# EAGLE library part PIC24FJ64GB002 (library carrilib)
Microcontroller, 16 bit /w USB Manufacturer: Microchip Part Number: PIC24FJ64GB002
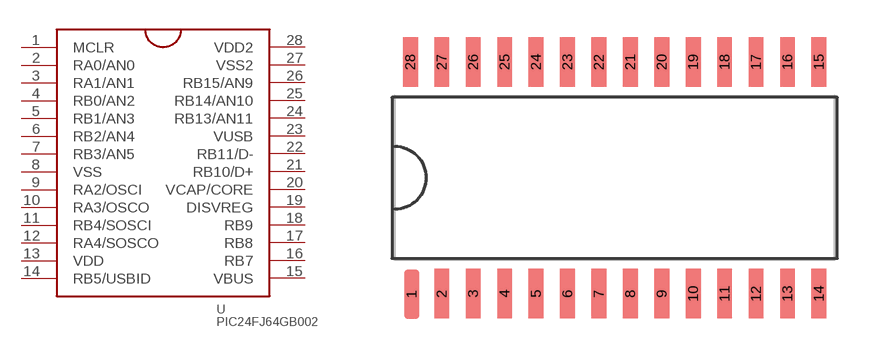
[diagram p18: symbol with the pads of SO28W; footprint SO28W]

Designator prefix U

## PIC24FJ64GB002  [SO28W]
1  MCLR
2  RA0/AN0
3  RA1/AN1
4  RB0/AN2
5  RB1/AN3
6  RB2/AN4
7  RB3/AN5
8  VSS
9  RA2/OSCI
10  RA3/OSCO
11  RB4/SOSCI
12  RA4/SOSCO
13  VDD
14  RB5/USBID
15  VBUS
16  RB7
17  RB8
18  RB9
19  DISVREG
20  VCAP/CORE
21  RB10/D+
22  RB11/D-
23  VUSB
24  RB13/AN11
25  RB14/AN10
26  RB15/AN9
27  VSS2
28  VDD2

## Footprint SO28W (pad centres in mm)
smd 0.6 x 2: 1 -8.2,-4.7; 2 -6.985,-4.68; 3 -5.715,-4.68; 4 -4.445,-4.68; 5 -3.175,-4.68; 6 -1.905,-4.68; 7 -0.635,-4.68; 8 0.635,-4.68; 9 1.905,-4.68; 10 3.175,-4.68; 11 4.445,-4.68; 12 5.715,-4.68; 13 6.985,-4.68; 14 8.255,-4.68; 15 8.255,4.68; 16 6.985,4.68; 17 5.715,4.68; 18 4.445,4.68; 19 3.175,4.68; 20 1.905,4.68; 21 0.635,4.68; 22 -0.635,4.68; 23 -1.905,4.68; 24 -3.175,4.68; 25 -4.445,4.68; 26 -5.715,4.68; 27 -6.985,4.68; 28 -8.255,4.68